# Altium integrated library BJT_NPN_600mA.IntLib: 1 symbol
Pins are listed as number, name and electrical type; pins without a type are passive.

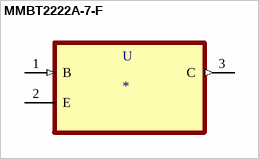
[diagram p0: symbol MMBT2222A-7-F]

## MMBT2222A-7-F
designator U
Bipolar _BJT_ Transistor NPN 40V 600mA 300MHz 310mW Surface Mount SOT-23-3; MF: Diodes Inc.; MP: MMBT2222A-7-F; Package: SOT-23-3 Diodes Inc.; Digi-Key_Purchase_URL: https://www.digikey.in/product-detail/en/diodes-incorporated/MMBT2222A-7-F/MMBT2222A-FDICT-ND/815723?utm_source=snapeda&utm_medium=aggregator&utm_campaign=symbol; Value: *; SnapEDA_Link: https://www.snapeda.com/parts/MMBT2222A-7-F/Diodes%20Inc./view-part/229424/?ref=snap; Digi-Key_Part_Number: MMBT2222A-FDICT-ND
footprint SOT103P240X110-3N
pins: 1 B (in), 2 E, 3 C (out)